# EAGLE library part MB1-130-CARD (library samtec)
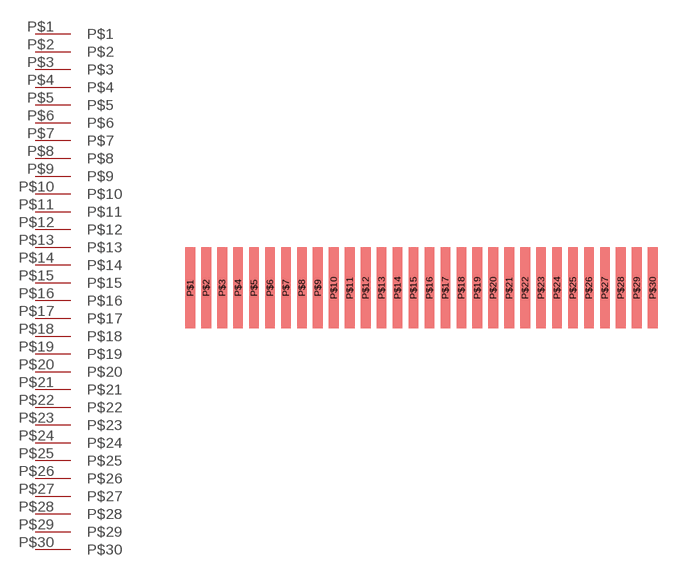
[diagram p3: symbol with the pads of MB1-130-CARD; footprint MB1-130-CARD]

Designator prefix -

## MB1-130-CARD  [MB1-130-CARD]
P$1  P$1
P$2  P$2
P$3  P$3
P$4  P$4
P$5  P$5
P$6  P$6
P$7  P$7
P$8  P$8
P$9  P$9
P$10  P$10
P$11  P$11
P$12  P$12
P$13  P$13
P$14  P$14
P$15  P$15
P$16  P$16
P$17  P$17
P$18  P$18
P$19  P$19
P$20  P$20
P$21  P$21
P$22  P$22
P$23  P$23
P$24  P$24
P$25  P$25
P$26  P$26
P$27  P$27
P$28  P$28
P$29  P$29
P$30  P$30

## Footprint MB1-130-CARD (pad centres in mm)
smd 0.61 x 5.08: P$1 -14.5,-0.73; P$2 -13.5,-0.73; P$3 -12.5,-0.73; P$4 -11.5,-0.73; P$5 -10.5,-0.73; P$6 -9.5,-0.73; P$7 -8.5,-0.73; P$8 -7.5,-0.73; P$9 -6.5,-0.73; P$10 -5.5,-0.73; P$11 -4.5,-0.73; P$12 -3.5,-0.73; P$13 -2.5,-0.73; P$14 -1.5,-0.73; P$15 -0.5,-0.73; P$16 0.5,-0.73; P$17 1.5,-0.73; P$18 2.5,-0.73; P$19 3.5,-0.73; P$20 4.5,-0.73; P$21 5.5,-0.73; P$22 6.5,-0.73; P$23 7.5,-0.73; P$24 8.5,-0.73; P$25 9.5,-0.73; P$26 10.5,-0.73; P$27 11.5,-0.73; P$28 12.5,-0.73; P$29 13.5,-0.73; P$30 14.5,-0.73